# Altium footprint library PcbLib1.PcbLib: 202 footprints (part 2 of 13)
Each footprint in its own frame and in the unit in brackets; x right, y up, seen from the top. Pads: shape width x height; smd on the part's side, far side on the other; paste and mask are expansions set on the pad; w line width, h text height; cw(c..) or ccw(c..) is an arc to the next point about the centre after c.
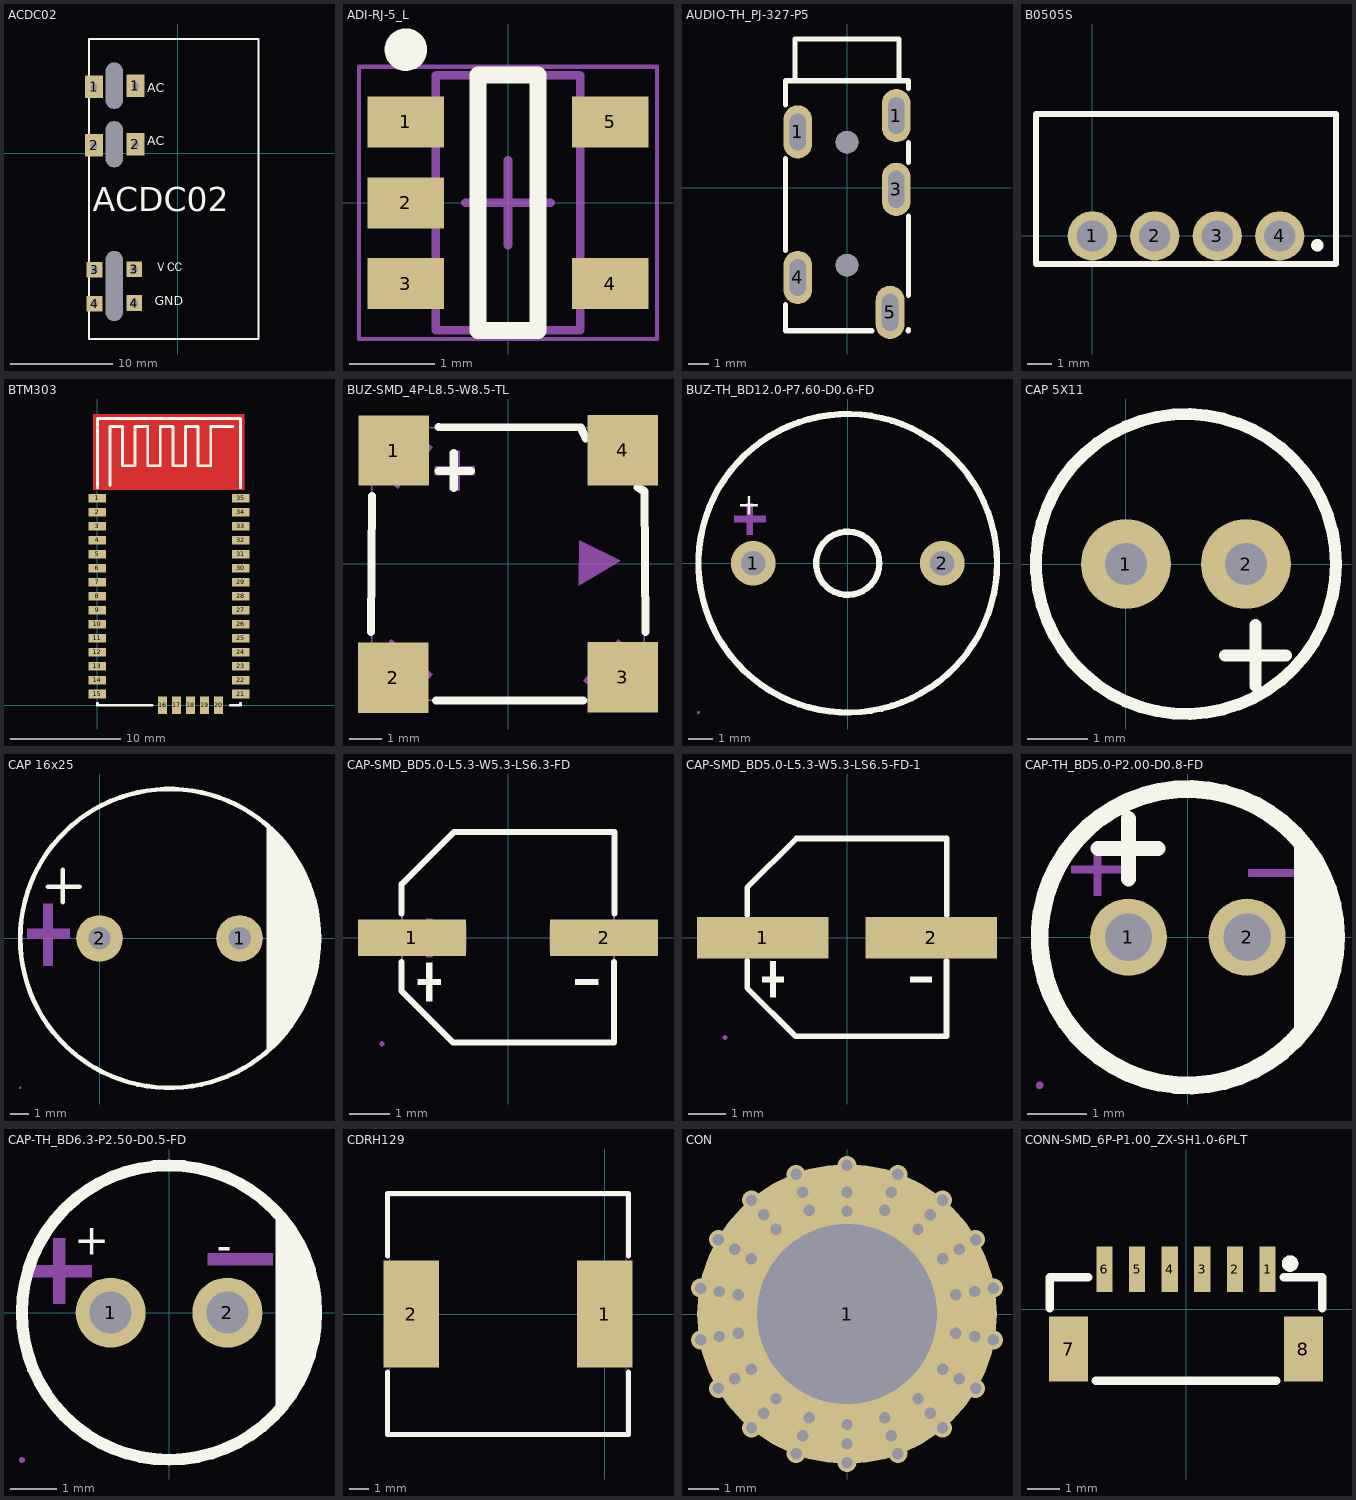
[diagram p1: the footprints below, top view; thin cyan lines are the x and y axes]

## ACDC02 [mil]
pads (14):
  rect 70x86.61 hole 28: 1(-322.68,256.65) 1(-163.5,259.17) 1(-163.5,259.17) 2(-322.68,31.65) 2(-163.5,34.17)
  rect 60x60 hole 28: 3(-320.71,-448.07) 3(-168.5,-445.83) 3(-168.5,-445.83)
  rect 60x60.87 hole 28: 4(-320.71,-578.07) 4(-168.5,-575.83) 4(-168.5,-575.83)
  round 0 hole 66.93 slot 177.17 at 90 deg: 27(-245,260) 28(-245,35)
  round 0 hole 66.93 slot 267.72 at 90 deg: 29(-245,-510)
Top Overlay:
  lines w7.87: -342.36,-713.82 -342.36,439.72 308.91,439.72 309.98,-713.82 -342.36,-713.82
  text "ＶCC" at -88.5,-464.82 h60
  text "ACDC02" at -327.44,-252.52 h157.48
  text "AC" at -118.5,224.17 h60
  text "AC" at -118.5,19.17 h60
  text "GND" at -88.5,-594.82 h60

## ADI-RJ-5_L [mm] "SOT-23, 5-Leads, Body 2.9x1.6mm, Pitch 0.95mm, IPC High Density"
height 1.45
pads (5):
  rect 0.9x0.6 smd: 1(-1.2,0.95) 2(-1.2,0) 3(-1.2,-0.95) 4(1.2,-0.95) 5(1.2,0.95)
Top Overlay:
  circle w0.25: c-1.2,1.8 r0.125
  lines w0.2: -0.35,-1.5 0.35,-1.5 0.35,1.5 -0.35,1.5 -0.35,-1.5
Mechanical 13:
  lines w0.1: -0.85,-1.5 -0.85,1.5 0.85,1.5 0.85,-1.5 -0.85,-1.5
Mechanical 15:
  lines w0.05: -1.75,-1.6 -1.75,1.6 1.75,1.6 1.75,-1.6 -1.75,-1.6
  lines w0.1: -0.5,0 0.5,0 ; 0,-0.5 0,0.5
3D body: height 1.45, standoff 0.05, extent -0.85,-1.5 0.85,1.5

## AUDIO-TH_PJ-327-P5 [mm]
pads (7):
  oval 1.4x2.6 hole 0.8 slot 1.8 at 90 deg: 1(-2.4,2.721) 1(2.4,3.521) 3(2.4,-0.079) 4(-2.4,-4.379) 5(2.1,-6.079)
  round 1.1 hole 1.1 unplated: ""(0,-3.779) ""(0,2.221)
Top Overlay:
  lines w0.254: -3,-5.691 -3,-6.979 1.219,-6.979 ; -3,-3.068 -3,1.409 ; -3,4.032 -3,5.221 3,5.221 3,4.832 ; -2.54,5.221 -2.54,7.253 2.54,7.253 2.54,5.221 ; 2.981,-6.979 3,-6.979 3,-6.911 ; 3,-5.248 3,-1.391 ; 3,1.232 3,2.209

## B0505S [mm]
pads (4):
  round 2 hole 1.27: 1(0,0) 2(2.54,0) 3(5.08,0) 4(7.62,0)
Top Overlay:
  circle w0.254: c9.144,-0.381 r0.127
  lines w0.254: -2.286,-1.143 -2.286,4.953 9.906,4.953 9.906,-1.143 -2.286,-1.143

## BTM303 [mm]
height 2
pads (35):
  rect 1.6x0.8 smd: 1(0,18.78) 2(0,17.51) 3(0,16.24) 4(0,14.97) 5(0,13.7) 6(0,12.43) 7(0,11.16) 8(0,9.89) 9(0,8.62) 10(0,7.35) 11(0,6.08) 12(0,4.81) 13(0,3.54) 14(0,2.27) 15(0,1) 21(13,1) 22(13,2.27) 23(13,3.54) 24(13,4.81) 25(13,6.08) 26(13,7.35) 27(13,8.62) 28(13,9.89) 29(13,11.16) 30(13,12.43) 31(13,13.7) 32(13,14.97) 33(13,16.24) 34(13,17.51) 35(13,18.78)
  rect 0.8x1.6 smd: 16(5.92,0) 17(7.19,0) 18(8.46,0) 19(9.73,0) 20(11,0)
Top Layer:
  pour cut-out: -0.381,19.558 -0.381,26.416 13.335,26.416 13.335,19.558
Bottom Layer:
  pour cut-out: -0.381,19.558 -0.381,26.416 13.335,26.416 13.335,19.558
Top Overlay:
  lines w0.254: 0,0.173 0,0 4.953,0 ; 0,19.731 0,26 13,26 13,19.731 ; 1.143,19.939 1.143,25.273 2.286,25.273 2.286,21.717 3.429,21.717 3.429,25.273 4.572,25.273 4.572,21.717 5.715,21.717 5.715,25.273 6.858,25.273 6.858,21.717 8.001,21.717 8.001,25.273 9.144,25.273 9.144,21.717 10.287,21.717 10.287,25.273 12.319,25.273 ; 12.065,0 13,0 13,0.173
3D body: height 1, standoff 0.25, extent 0,0 12.954,26.035

## BUZ-SMD_4P-L8.5-W8.5-TL [mil]
pads (4):
  rect 86.6x86.6 smd: 1(-140.5,139.4) 2(-141,-140.1) 3(140.9,-138.9) 4(141,140)
Top Overlay:
  lines w10: -168.3,-83.4 -167.3,83.6 ; -88.3,-167.6 92.5,-167.6 ; -85.6,114.4 -45.6,114.4 ; -85.3,168.2 89.5,167.7 95.4,154.4 ; -66.6,93.4 -66.6,136.4 ; 159.4,94 167.5,89.4 168.9,-83.6
Mechanical 2:
  region: -90,119.8 -40.7,119.8 -40.7,109.1 -90,109.1
  region: -70.3,90.1 -70.3,139.3 -59.5,139.3 -59.5,90.1
  region: 138.8,3.8 87.3,29 86.9,-27
Mechanical 6:
  lines w2: -167.3,-167.4 -167.3,167.3 167.3,167.3 167.3,-167.4 -167.3,-167.4
Mechanical 8:
  region: -159,167.7 -159.3,165.3 -160.5,163.1 -162.2,161.3 -164.4,160.2 -166.8,159.8 -169.3,160.2 -171.5,161.3 -173.2,163.1 -174.3,165.3 -174.7,167.7 -174.3,170.1 -173.2,172.3 -171.5,174.1 -169.3,175.2 -166.8,175.6 -164.4,175.2 -162.2,174.1 -160.5,172.3 -159.3,170.1
Mechanical 9:
  region: -167.3,-167.4 -167.1,-120.2 -143.7,-92.4 -92.3,-135.5 -120.3,-167.3
  region: 167.3,-167.4 120.2,-167.2 92.3,-143.7 135.5,-92.3 167.3,-120.3
  region: -167.3,167.3 -120.2,167.1 -92.3,143.6 -135.5,92.2 -167.3,120.2
  region: 129.1,167.7 167.7,129.1 151.6,112.9 113,151.5

## BUZ-TH_BD12.0-P7.60-D0.6-FD [mm]
pads (2):
  round 1.8 hole 1: 1(-3.8,0) 2(3.8,0)
Top Overlay:
  circle w0.254: c0,0 r6
  circle w0.254: c0,0 r1.27
  text "+" at -4.445,1.943 h0.83
Mechanical 6:
  region: -4.064,1.27 -4.064,2.413 -3.81,2.413 -3.81,1.143 -4.064,1.143
  region: -4.445,1.905 -3.302,1.905 -3.302,1.651 -4.572,1.651 -4.572,1.905
Mechanical 15:
  region: -3.5,0 -3.5,0.06 -3.546,0.17 -3.63,0.254 -3.74,0.3 -3.86,0.3 -3.97,0.254 -4.054,0.17 -4.1,0.06 -4.1,0 -4.1,-0.06 -4.054,-0.17 -3.97,-0.254 -3.86,-0.3 -3.74,-0.3 -3.63,-0.254 -3.546,-0.17 -3.5,-0.06
  region: 4.1,0 4.1,0.06 4.054,0.17 3.97,0.254 3.86,0.3 3.74,0.3 3.63,0.254 3.545,0.17 3.5,0.06 3.5,0 3.5,-0.06 3.546,-0.17 3.63,-0.254 3.74,-0.3 3.86,-0.3 3.97,-0.254 4.054,-0.17 4.1,-0.06
  region: -5.94,-6 -5.94,-5.975 -5.975,-5.94 -6.025,-5.94 -6.06,-5.975 -6.06,-6 -6.06,-6.025 -6.025,-6.06 -5.975,-6.06 -5.94,-6.025
  lines w0.051: -6,0 cw(c0,0) 0,6 cw(c0,0) 6,0 cw(c0,0) 0,-6 cw(c0,0) -6,0

## CAP 5X11 [mm]
pads (2):
  round 1.5 hole 0.7: 1(0,0) 2(2,0)
Top Overlay:
  circle w0.2: c1,0 r2.5
  lines w0.2: 1.651,-1.524 2.667,-1.524 ; 2.159,-2.032 2.159,-1.016

## CAP 16x25 [mm]
pads (2):
  round 2.5 hole 1.2 mask+0.051: 1(7.5,0) 2(0,0)
Top Overlay:
  circle w0.254: c3.75,0 r8
  region: 8.957,-6.096 9.285,-5.813 9.876,-5.181 10.396,-4.49 10.839,-3.746 11.199,-2.959 11.473,-2.139 11.658,-1.293 11.751,-0.433 11.751,0.433 11.658,1.293 11.473,2.139 11.199,2.96 10.839,3.746 10.396,4.49 9.876,5.182 9.285,5.814 8.957,6.096
  lines w0.254: -2.753,2.769 -1.076,2.769 ; -1.965,1.956 -1.965,3.683
Mechanical 6:
  region: 11.45,-0.2 9.164,-0.2 9.164,0.308 11.45,0.308
  region: -3.004,1.851 -2.496,1.851 -2.496,-1.451 -3.004,-1.451
  region: -3.87,0.508 -1.584,0.508 -1.584,0 -3.87,0
Mechanical 15:
  region: 0.4,0 0.4,0.08 0.339,0.227 0.226,0.339 0.079,0.4 -0.08,0.4 -0.227,0.339 -0.339,0.227 -0.4,0.08 -0.4,0 -0.4,-0.079 -0.339,-0.226 -0.227,-0.339 -0.08,-0.4 0.079,-0.4 0.226,-0.339 0.339,-0.226 0.4,-0.079
  region: 7.9,0 7.9,0.08 7.839,0.227 7.726,0.339 7.579,0.4 7.42,0.4 7.273,0.339 7.161,0.227 7.1,0.08 7.1,0 7.1,-0.079 7.161,-0.226 7.273,-0.339 7.42,-0.4 7.579,-0.4 7.726,-0.339 7.839,-0.226 7.9,-0.079
  region: -4.19,-8 -4.19,-7.975 -4.225,-7.94 -4.275,-7.94 -4.31,-7.975 -4.31,-8 -4.31,-8.025 -4.275,-8.06 -4.225,-8.06 -4.19,-8.025
  lines w0.051: -4.25,0 ccw(c3.75,0) 11.75,0 ccw(c3.75,0) -4.25,0

## CAP-SMD_BD5.0-L5.3-W5.3-LS6.3-FD [mm]
pads (2):
  rect 2.7x0.91 smd: 1(-2.4,0) 2(2.4,0)
Top Overlay:
  region: 2.256,-1.032 2.256,-1.176 1.68,-1.176 1.68,-1.032
  region: -2.256,-1.032 -2.256,-1.176 -1.68,-1.176 -1.68,-1.032
  region: -2.04,-0.624 -2.04,-1.584 -1.896,-1.584 -1.896,-0.624
  lines w0.152: -2.659,-0.607 -2.659,-1.331 -1.372,-2.619 2.649,-2.619 2.649,-0.607 ; -2.659,0.607 -2.659,1.341 -1.349,2.649 2.659,2.649 2.659,0.607
Mechanical 6:
  region: 2.256,0.072 2.256,-0.072 1.68,-0.072 1.68,0.072
  region: -2.256,0.072 -2.256,-0.072 -1.68,-0.072 -1.68,0.072
  region: -2.04,0.48 -2.04,-0.48 -1.896,-0.48 -1.896,0.48
Mechanical 15:
  region: -3.09,-2.65 -3.091,-2.626 -3.125,-2.592 -3.174,-2.592 -3.209,-2.626 -3.21,-2.65 -3.209,-2.674 -3.174,-2.708 -3.125,-2.708 -3.09,-2.674
  region: -3.15,0.325 -1.05,0.325 -1.05,-0.325 -3.15,-0.325
  region: 3.15,-0.325 1.05,-0.325 1.05,0.325 3.15,0.325
  lines w0.051: -2.65,-1.35 -1.35,-2.65 2.65,-2.65 2.65,2.65 -1.35,2.65 -2.65,1.35 -2.65,-1.35

## CAP-SMD_BD5.0-L5.3-W5.3-LS6.5-FD-1 [mm]
pads (2):
  rect 3.5x1.1 smd paste+0.051: 1(-2.245,0) 2(2.245,0)
Top Overlay:
  region: 2.256,-1.032 2.256,-1.176 1.68,-1.176 1.68,-1.032
  region: -2.256,-1.032 -2.256,-1.176 -1.68,-1.176 -1.68,-1.032
  region: -2.04,-0.624 -2.04,-1.584 -1.896,-1.584 -1.896,-0.624
  lines w0.152: -2.659,-0.607 -2.659,-1.331 -1.372,-2.619 2.649,-2.619 2.649,-0.607 ; -2.659,0.607 -2.659,1.341 -1.349,2.649 2.659,2.649 2.659,0.607
Mechanical 2:
  region: 2.256,0.072 2.256,-0.072 1.68,-0.072 1.68,0.072
  region: -2.256,0.072 -2.256,-0.072 -1.68,-0.072 -1.68,0.072
  region: -2.04,0.48 -2.04,-0.48 -1.896,-0.48 -1.896,0.48
Mechanical 6:
  lines w0.051: -2.65,-1.35 -2.65,1.35 -1.35,2.65 2.65,2.65 2.65,-2.65 -1.35,-2.65 -2.65,-1.35
Mechanical 8:
  region: -3.189,-2.65 -3.189,-2.675 -3.224,-2.71 -3.274,-2.71 -3.309,-2.675 -3.309,-2.65 -3.309,-2.625 -3.274,-2.59 -3.224,-2.59 -3.189,-2.625
Mechanical 9:
  region: -3.249,0.325 -1.049,0.325 -1.049,-0.325 -3.249,-0.325
  region: 1.049,0.325 3.249,0.325 3.249,-0.325 1.049,-0.325

## CAP-TH_BD5.0-P2.00-D0.8-FD [mm]
pads (2):
  round 1.3 hole 0.8: 1(-1,0) 2(1,0)
Top Overlay:
  circle w0.3: c0,0 r2.5
  region: 1.794,1.651 1.961,1.491 2.225,1.111 2.407,0.685 2.5,0.231 2.5,-0.231 2.407,-0.685 2.225,-1.111 1.961,-1.491 1.794,-1.651
  lines w0.254: -1.516,1.5 -0.5,1.5 ; -1,0.984 -1,2
Mechanical 6:
  region: -1.969,1.206 -1.08,1.206 -1.08,1.079 -1.969,1.079
  region: -1.588,0.699 -1.588,1.587 -1.461,1.587 -1.46,0.699
  region: 1.016,1.143 1.905,1.143 1.905,1.016 1.016,1.016
Mechanical 15:
  region: -2.44,-2.5 -2.44,-2.475 -2.475,-2.44 -2.525,-2.44 -2.56,-2.475 -2.56,-2.5 -2.56,-2.525 -2.525,-2.56 -2.475,-2.56 -2.44,-2.525
  region: -0.7,0 -0.701,0.059 -0.748,0.167 -0.832,0.25 -0.941,0.294 -1.059,0.294 -1.168,0.25 -1.252,0.167 -1.299,0.059 -1.3,0 -1.299,-0.059 -1.252,-0.167 -1.168,-0.25 -1.059,-0.294 -0.941,-0.294 -0.832,-0.25 -0.748,-0.167 -0.701,-0.059
  region: 1.3,0 1.299,0.059 1.252,0.167 1.168,0.25 1.059,0.294 0.941,0.294 0.832,0.25 0.748,0.167 0.701,0.059 0.7,0 0.701,-0.059 0.748,-0.167 0.832,-0.25 0.941,-0.294 1.059,-0.294 1.168,-0.25 1.252,-0.167 1.299,-0.059
  lines w0.051: 0,-2.5 cw(c0,0) -2.5,0 cw(c0,0) 0,2.5 cw(c0,0) 2.5,0 ; 0,-2.5 ccw(c0,0) 2.5,0 ; 0,-2.5 0,-2.5 ; 2.5,0 2.5,0

## CAP-TH_BD6.3-P2.50-D0.5-FD [mm]
pads (2):
  round 1.5 hole 0.9 paste-2539.97 mask+0.05: 1(-1.25,0) 2(1.25,0)
Top Overlay:
  circle w0.254: c0,0 r3.15
  region: 2.286,-2.286 2.285,2.17 2.286,2.169 2.395,2.06 2.592,1.82 2.764,1.563 2.91,1.29 3.028,1.004 3.118,0.708 3.178,0.404 3.209,0.096 3.209,-0.059 3.209,-0.213 3.178,-0.521 3.118,-0.825 3.028,-1.121 2.91,-1.407 2.764,-1.68 2.592,-1.937 2.395,-2.177
  lines w0.254: -3.15,0 ccw(c0,0) 3.15,0 ccw(c0,0) -3.15,0
  text "-" at 1.016,1.109 h0.65
  text "+" at -2.032,1.236 h0.65
Mechanical 6:
  region: 0.826,1.27 2.222,1.27 2.222,1.016 0.826,1.016
  region: -2.476,0.191 -2.476,1.587 -2.222,1.587 -2.222,0.191
  region: -3.048,1.016 -1.651,1.016 -1.651,0.762 -3.048,0.762
Mechanical 15:
  region: -3.092,-3.151 -3.092,-3.126 -3.127,-3.091 -3.177,-3.091 -3.212,-3.126 -3.212,-3.151 -3.212,-3.176 -3.177,-3.211 -3.127,-3.211 -3.092,-3.176
  region: 1.5,0 1.5,0.049 1.461,0.141 1.391,0.21 1.299,0.248 1.2,0.248 1.109,0.21 1.039,0.141 1,0.049 1,0 1,-0.05 1.039,-0.141 1.109,-0.21 1.2,-0.248 1.299,-0.248 1.391,-0.21 1.461,-0.141 1.5,-0.049
  region: -1,0 -1,0.049 -1.039,0.141 -1.109,0.21 -1.2,0.248 -1.299,0.248 -1.391,0.21 -1.461,0.141 -1.5,0.049 -1.5,0 -1.5,-0.05 -1.461,-0.141 -1.391,-0.21 -1.299,-0.248 -1.2,-0.248 -1.109,-0.21 -1.039,-0.141 -1,-0.049
  lines w0.051: -3.152,-0.001 ccw(c-0.002,-0.001) -0.002,-3.151 0.001,-3.151 ccw(c0.001,-0.005) 3.147,-0.005 3.147,0.005 ccw(c0,0.005) 0,3.152 -0.003,3.152 ccw(c-0.003,0.003) -3.152,0.003 -3.152,-0.001

## CDRH129 [mm]
pads (2):
  rect 2.8x5.4 smd mask+0.051: 1(0,0) 2(-9.8,0)
Top Overlay:
  lines w0.254: -10.996,-2.931 -10.996,-6.096 1.196,-6.096 1.196,-2.931 ; -10.996,2.931 -10.996,6.096 1.196,6.096 1.196,2.931
Mechanical 15:
  region: 1.16,6 1.16,6.025 1.125,6.06 1.075,6.06 1.04,6.025 1.04,6 1.04,5.975 1.075,5.94 1.125,5.94 1.16,5.975
  region: 1.1,2.1 1.1,-2.1 -0.9,-2.1 -0.9,2.1
  region: -8.9,2.1 -8.9,-2.1 -10.9,-2.1 -10.9,2.1
  lines w0.051: -10.9,-6 -10.9,6 1.1,6 1.1,-6 -10.9,-6

## CON [mm]
pads (1):
  round 10 hole 6: 1(0,0)
via 0,3.429 diameter 0.635 hole 0.381
via 0,4.064 diameter 0.635 hole 0.381
via 0,4.953 diameter 0.635 hole 0.381
via -1.694,4.654 diameter 0.635 hole 0.381
via -1.477,4.058 diameter 0.635 hole 0.381
via -1.26,3.461 diameter 0.635 hole 0.381
via -3.184,3.794 diameter 0.635 hole 0.381
via -2.776,3.308 diameter 0.635 hole 0.381
via -2.367,2.821 diameter 0.635 hole 0.381
via -4.289,2.476 diameter 0.635 hole 0.381
via -3.739,2.159 diameter 0.635 hole 0.381
via -3.19,1.842 diameter 0.635 hole 0.381
via -4.878,0.86 diameter 0.635 hole 0.381
via -4.252,0.75 diameter 0.635 hole 0.381
via -3.627,0.64 diameter 0.635 hole 0.381
via -4.878,-0.86 diameter 0.635 hole 0.381
via -4.252,-0.75 diameter 0.635 hole 0.381
via -3.627,-0.64 diameter 0.635 hole 0.381
via -4.289,-2.476 diameter 0.635 hole 0.381
via -3.739,-2.159 diameter 0.635 hole 0.381
via -3.19,-1.841 diameter 0.635 hole 0.381
via -3.184,-3.794 diameter 0.635 hole 0.381
via -2.776,-3.308 diameter 0.635 hole 0.381
via -2.367,-2.821 diameter 0.635 hole 0.381
via -1.694,-4.654 diameter 0.635 hole 0.381
via -1.477,-4.058 diameter 0.635 hole 0.381
via -1.26,-3.461 diameter 0.635 hole 0.381
via 0,-4.953 diameter 0.635 hole 0.381
via 0,-4.318 diameter 0.635 hole 0.381
via 0,-3.683 diameter 0.635 hole 0.381
via 1.694,-4.654 diameter 0.635 hole 0.381
via 1.477,-4.058 diameter 0.635 hole 0.381
via 1.26,-3.461 diameter 0.635 hole 0.381
via 3.184,-3.794 diameter 0.635 hole 0.381
via 2.776,-3.308 diameter 0.635 hole 0.381
via 2.367,-2.821 diameter 0.635 hole 0.381
via 4.289,-2.476 diameter 0.635 hole 0.381
via 3.739,-2.159 diameter 0.635 hole 0.381
via 3.19,-1.842 diameter 0.635 hole 0.381
via 4.878,-0.86 diameter 0.635 hole 0.381
via 4.252,-0.75 diameter 0.635 hole 0.381
via 3.627,-0.64 diameter 0.635 hole 0.381
via 4.878,0.86 diameter 0.635 hole 0.381
via 4.252,0.75 diameter 0.635 hole 0.381
via 3.627,0.64 diameter 0.635 hole 0.381
via 4.289,2.476 diameter 0.635 hole 0.381
via 3.739,2.159 diameter 0.635 hole 0.381
via 3.19,1.841 diameter 0.635 hole 0.381
via 3.184,3.794 diameter 0.635 hole 0.381
via 2.776,3.308 diameter 0.635 hole 0.381
via 2.367,2.821 diameter 0.635 hole 0.381
via 1.694,4.654 diameter 0.635 hole 0.381
via 1.477,4.058 diameter 0.635 hole 0.381
via 1.26,3.461 diameter 0.635 hole 0.381

## CONN-SMD_6P-P1.00_ZX-SH1.0-6PLT [mil]
pads (8):
  rect 19.7x55.1 smd paste+0 mask+2: 1(98.4,48.2) 2(59,48.2) 3(19.6,48.2) 4(-19.7,48.2) 5(-59.1,48.2) 6(-98.5,48.2)
  rect 47.2x78.7 smd paste+0 mask+2: 7(-141.8,-48.2) 8(141.7,-48.2)
Top Overlay:
  lines w10: -164.4,1 -164.4,38.4 -118.2,38.4 ; -109.1,-86.6 109,-86.6 ; 118.1,38.4 164.3,38.4 164.3,1 ; 120.6,55 121,53.1 122.1,51.5 123.7,50.4 125.6,50 127.5,50.4 129.1,51.5 130.2,53.1 130.6,55 130.2,56.9 129.1,58.5 127.5,59.6 125.6,60 123.7,59.6 122.1,58.5 121,56.9 120.6,55
Mechanical 2:
  lines w10: 120.6,55 121,53.1 122.1,51.5 123.7,50.4 125.6,50 127.5,50.4 129.1,51.5 130.2,53.1 130.6,55 130.2,56.9 129.1,58.5 127.5,59.6 125.6,60 123.7,59.6 122.1,58.5 121,56.9 120.6,55
Mechanical 9:
  region: -137.8,-73.8 -145.7,-73.8 -145.7,-22.6 -137.8,-22.6
  region: -55.2,30.1 -63,30.1 -63,61.6 -55.2,61.6
  region: -94.5,30.1 -102.4,30.1 -102.4,61.6 -94.5,61.6
  region: 23.6,30.1 15.7,30.1 15.7,61.6 23.6,61.6
  region: -15.8,30.1 -23.7,30.1 -23.7,61.6 -15.8,61.6
  region: 62.9,30.1 55.1,30.1 55.1,61.6 62.9,61.6
  region: 102.3,30.1 94.4,30.1 94.4,61.6 102.3,61.6
  region: 145.6,-73.8 137.8,-73.8 137.8,-22.6 145.6,-22.6